# Altium footprint library PCB - CRYSTALS - ABRACON ASD.PCBLIB: 1 footprints
Each footprint in its own frame and in the unit in brackets; x right, y up, seen from the top. Pads: shape width x height; smd on the part's side, far side on the other; paste and mask are expansions set on the pad; w line width, h text height; cw(c..) or ccw(c..) is an arc to the next point about the centre after c.
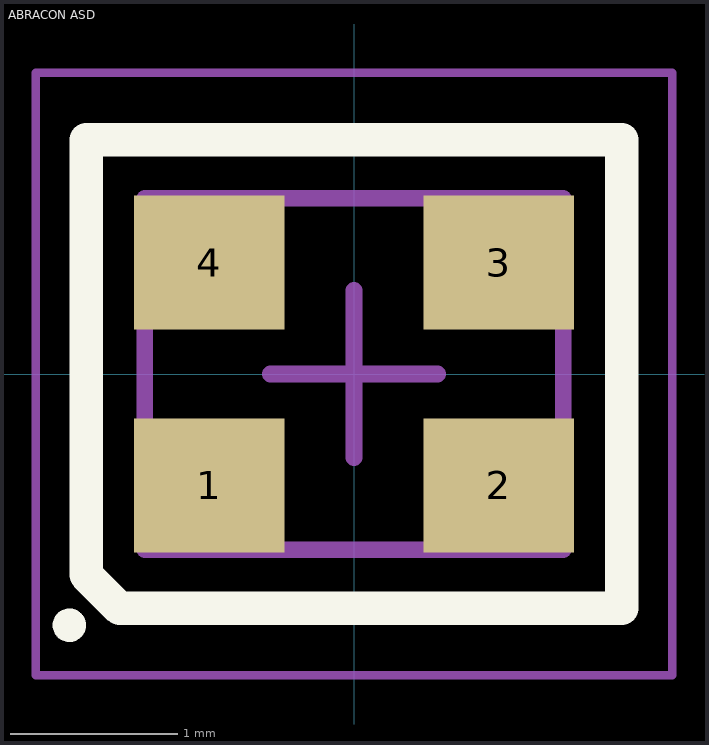
[diagram p0: the footprint, top view; thin cyan lines are the x and y axes]

## ABRACON ASD [mm] "Crystal, 4-Leads, Body 2.00x2.45mm, Pitch 1.65mm, IPC Medium Density"
height 1
pads (4):
  rect 0.9x0.8 smd: 1(-0.865,-0.665) 2(0.865,-0.665) 3(0.865,0.665) 4(-0.865,0.665)
Top Overlay:
  circle w0.1: c-1.7,-1.5 r0.05
  lines w0.2: -1.6,-1.2 -1.6,1.4 1.6,1.4 1.6,-1.4 -1.4,-1.4 -1.6,-1.2
Mechanical 13:
  lines w0.1: -1.25,-1.05 1.25,-1.05 1.25,1.05 -1.25,1.05 -1.25,-1.05
Mechanical 15:
  lines w0.05: -1.9,-1.8 1.9,-1.8 1.9,1.8 -1.9,1.8 -1.9,-1.8
  lines w0.1: -0.5,0 0.5,0 ; 0,-0.5 0,0.5
3D body "Abracon ASD.STEP": height 1, standoff 0, extent -1.275,-1.025 1.275,1.025